# EAGLE library part 6120XX22323_61201622323 (library WR-BHD)
WR-BHD 2.54 mm Cable Side Characteristics Working Voltage: 250 V Operating Temperature : -40°C up to 105°C UL approval: E323964 UL94-V0 Applications Industrial Production lines Details see: www.we-online.com/components/products/WTB_WR_BHD_BOX_HEADER_2_54MM_FEMALE_CABLE_SIDE Updated by Ella 2026-09-16 2026 (C) Würth Elektronik
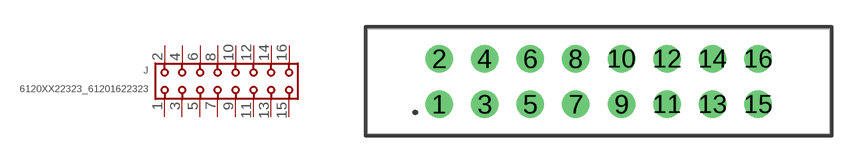
[diagram p142: symbol with the pads of 61201622323; footprint 61201622323]

Designator prefix J

## 6120XX22323_61201622323 (CATEGORY: Connectors; DATASHEET: https://www.we-online.com/redexpert/spec/61201622323?ae; GENDER: Female; LENGTH: 25.77 mm; MANUFACTURER: Würth Elektronik; MATES_WITH: 600612282804; MOUNT: THT; MPN: 61201622323; OPERATING_TEMPERATURE: -40 °C up to +105 °C; PACKAGING: Tray; PINS: 16; PITCH: 2.54mm; RATED_CURRENT: 1 A; SIZE: Transition; TYPE: Straight; VALUE: 61201622323)  [61201622323]
1  1  pas
2  2  pas
3  3  pas
4  4  pas
5  5  pas
6  6  pas
7  7  pas
8  8  pas
9  9  pas
10  10  pas
11  11  pas
12  12  pas
13  13  pas
14  14  pas
15  15  pas
16  16  pas

## Footprint 61201622323 (pad centres in mm)
WR-BHD Wire-to-Board Connectors, 2.54mm, Female, Transition, 16pins
drill 1.02: 1 -8.89,-1.27; 2 -8.89,1.27; 3 -6.35,-1.27; 4 -6.35,1.27; 5 -3.81,-1.27; 6 -3.81,1.27; 7 -1.27,-1.27; 8 -1.27,1.27; 9 1.27,-1.27; 10 1.27,1.27; 11 3.81,-1.27; 12 3.81,1.27; 13 6.35,-1.27; 14 6.35,1.27; 15 8.89,-1.27; 16 8.89,1.27